# EAGLE library part 1706251 (library My Library)
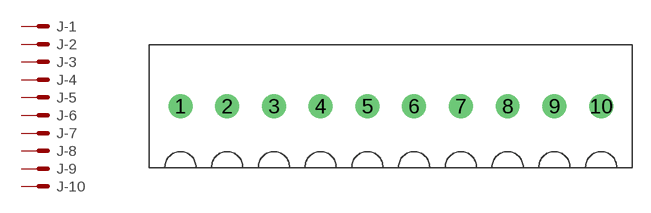
[diagram p25: symbol with the pads of 1706251; footprint 1706251]

Designator prefix J; gates -5=CONPIN -4=CONPIN -3=CONPIN -2=CONPIN -1=CONPIN -6=CONPIN -7=CONPIN -8=CONPIN -9=CONPIN -10=CONPIN

## 1706251  [1706251]
1  -1:S  pas
2  -2:S  pas
3  -3:S  pas
4  -4:S  pas
5  -5:S  pas
6  -6:S  pas
7  -7:S  pas
8  -8:S  pas
9  -9:S  pas
10  -10:S  pas

## Footprint 1706251 (pad centres in mm)
drill 1.3 round: 1 -17.15,0; 2 -13.34,0; 3 -9.53,0; 4 -5.72,0; 5 -1.91,0; 6 1.9,0; 7 5.71,0; 8 9.52,0; 9 13.33,0; 10 17.14,0